# Altium schematic symbol library ICs.SchLib: 51 symbols (part 2 of 2)
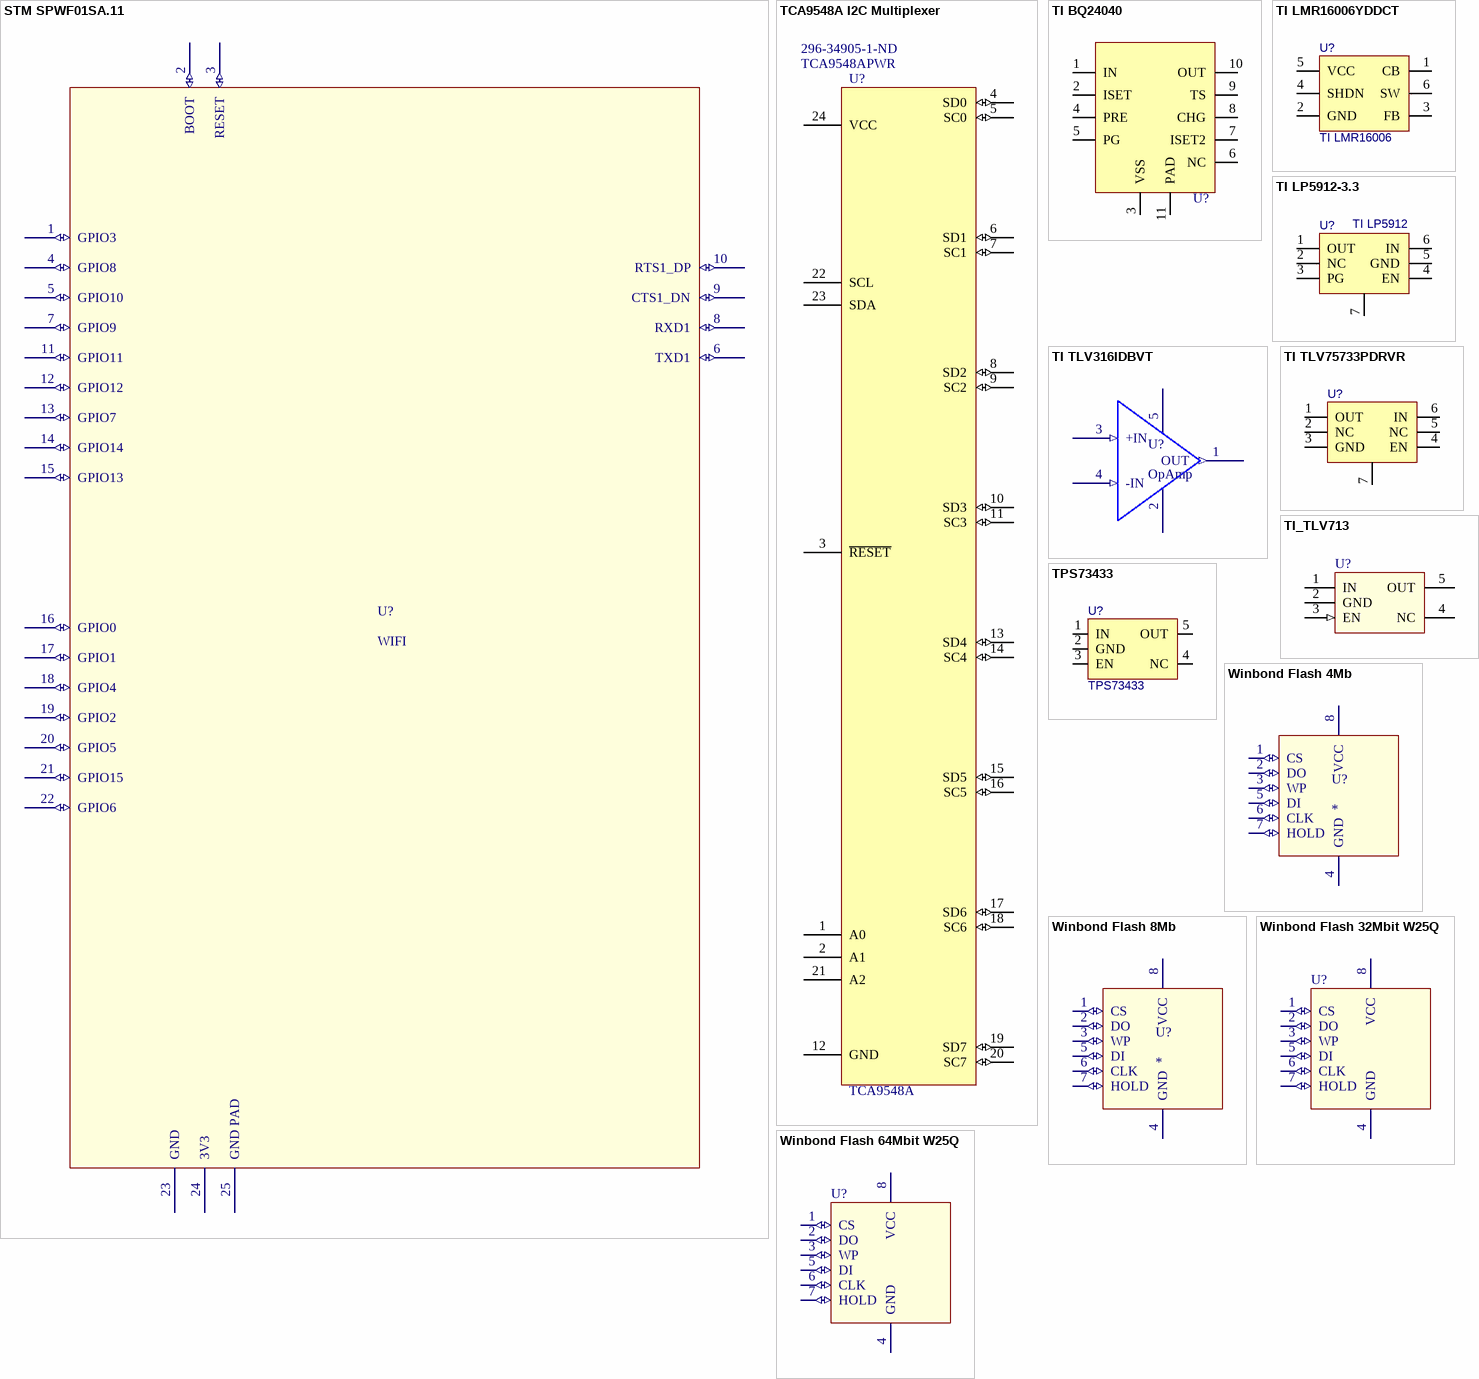
[diagram p3: symbols STM SPWF01SA.11 to Winbond Flash 64Mbit W25Q]

## STM SPWF01SA.11
designator U?, comment WIFI
Certified WIFI Module; Manufacturer: STMicroelectronics; Manufacturer Part Number: SPWF01SA.11; Protocol: 802.11b/g/n; Modulation: DSSS, OFDM; Frequency: 2.4GHz; Data Rate: 65Mbps; Power - Output: 18.3dBm; Sensitivity: -96dBm; Serial Interfaces: UART; Antenna Type: Integrated, Chip; Memory Size: 1.5MB Flash, 64kB RAM; Voltage - Supply: 3.3V; Current - Receiving: 105mA; Current - Transmitting: 210mA ~ 344mA; ID: 19561028; Supplier 1: Digi-Key; RoHS: RoHS Compliant; Category: RF/IF and RFID; Stock 1: 1130; Pricing 1: 1=28.73, 10=25.997, 100=21.8922, 250=20.52388, 500=19.15564, 1000=18.19785, 2500=17.44531, 5000=16.96642 (CAD); Packaging: Tray; RF Family/Standard: WiFi; Mounting Type: Surface Mount; Operating Temperature: -40°C ~ 85°C; Package / Case: Module; ComponentLink1URL: http://www.st.com/web/en/resource/technical/document/datasheet/DM00102124.pdf; ComponentLink1Description: http://www.st.com/web/en/resource/technical/document/datasheet/DM00102124.pdf; Supplier 2: Arrow; Stock 2: 3847; Pricing 2: 1=16.19, 10=14.707, 100=13.82, 250=12.537, 500=11.724, 1000=11.694, 2500=11.619, 5000=11.574 (USD); Package Quantity: 1; ComponentLink2URL: https://www.arrow.com/en/products/spwf01sa.11/stmicroelectronics/; ComponentLink2Description: https://www.arrow.com/en/products/spwf01sa.11/stmicroelectronics/; Supplier Part Number 1: 497-14636-ND; Supplier Part Number 2: Wdfpc_wiQzKTQH3At1qLNiXMcmFL7nZEeRLTwZfB4eA
pins: 1 GPIO3 (io), 2 BOOT (io), 3 RESET (io), 4 GPIO8 (io), 5 GPIO10 (io), 6 TXD1 (io), 7 GPIO9 (io), 8 RXD1 (io), 9 CTS1_DN (io), 10 RTS1_DP (io), 11 GPIO11 (io), 12 GPIO12 (io), 13 GPIO7 (io), 14 GPIO14 (io), 15 GPIO13 (io), 16 GPIO0 (io), 17 GPIO1 (io), 18 GPIO4 (io), 19 GPIO2 (io), 20 GPIO5 (io), 21 GPIO15 (io), 22 GPIO6 (io), 23 GND (power), 24 3V3 (power), 25 GND PAD (power)

## TCA9548A I2C Multiplexer
designator U?, comment TCA9548A  Supplier Part Number 1: TCA9548APWR  Supplier Part Number 2: 296-34905-1-ND
Supplier 1: Arrow; Supplier 2: Digi-Key
footprint TSOP65P640X120-24N (TSOP, 24-Leads, Body 7.80x4.40mm, Pitch 0.65mm, IPC Medium Density)
pins: 1 A0, 2 A1, 3 ~{RESET}, 4 SD0 (io), 5 SC0 (io), 6 SD1 (io), 7 SC1 (io), 8 SD2 (io), 9 SC2 (io), 10 SD3 (io), 11 SC3 (io), 12 GND (power), 13 SD4 (io), 14 SC4 (io), 15 SD5 (io), 16 SC5 (io), 17 SD6 (io), 18 SC6 (io), 19 SD7 (io), 20 SC7 (io), 21 A2, 22 SCL, 23 SDA, 24 VCC (power)

## TI BQ24040
designator U?  (value not drawn)
LiPoly Charge IC; Manufacturer: Texas Instruments; Manufacturer Part Number: BQ24040DSQR; Battery Chemistry: Lithium-Ion/Polymer; Number of Cells: 1; Current - Charging: Constant - Programmable; Programmable Features: Current; Fault Protection: Over Temperature, Over Voltage, Short Circuit; Charge Current - Max: 1A; Battery Pack Voltage: 4.2V; Voltage - Supply (Max): 28V; Supplier 1: Digi-Key; Stock 1: 26924; Pricing 1: 1=1.26, 10=1.124, 100=0.8765, 500=0.7241, 1000=0.5717 (USD); Category: Integrated Circuits (ICs); Family: PMIC - Battery Chargers; Series: -; Packaging: Cut Tape (CT); Interface: -; Operating Temperature: -40°C ~ 85°C (TA); Package / Case: 10-WFDFN Exposed Pad; Supplier Device Package: 10-SON (2x2); ComponentLink1URL: http://www.ti.com/lit/pdf/slyt420; ComponentLink1Description: http://www.ti.com/lit/pdf/slyt420; ComponentLink2URL: http://datasheet.iiic.cc/texas_instruments/BQ24040DSQR.pdf; ComponentLink2Description: http://datasheet.iiic.cc/texas_instruments/BQ24040DSQR.pdf; Supplier Part Number 1: 296-37142-1-ND
footprint WDFN-10 2x2
pins: 1 IN, 2 ISET, 3 VSS, 4 PRE, 5 PG, 6 NC, 7 ISET2, 8 CHG, 9 TS, 10 OUT, 11 PAD

## TI LMR16006YDDCT
designator U?, comment TI LMR16006
IC, Switching Regulator,0.5A,SOT-23-6; Manufacturer: Texas Instruments; Manufacturer Part Number: LMR16006YDDCR; Function: Step-Down; Output Configuration: Positive; Topology: Buck; Output Type: Adjustable; Number of Outputs: 1; Voltage - Input (Min): 4V; Voltage - Input (Max): 60V; Voltage - Output (Min/Fixed): 0.765V; Voltage - Output (Max): 55V; Current - Output: 600mA; Frequency - Switching: 2.1MHz; Synchronous Rectifier: No; TZOA PN: 218-00002; Supplier 1: Digi-Key; Stock 1: 3069; Pricing 1: 1=2.95, 10=2.648, 100=2.1692, 500=1.8466, 1000=1.5574 (USD); Category: Integrated Circuits (ICs); Family: PMIC - Voltage Regulators - DC DC Switching Regulators; Series: SIMPLE SWITCHER®; Packaging: Cut Tape (CT); Operating Temperature: -40°C ~ 125°C (TJ); Mounting Type: Surface Mount; Package / Case: SOT-23-6 Thin, TSOT-23-6; Supplier Device Package: SOT-6; ComponentLink1URL: http://www.ti.com/general/docs/lit/getliterature.tsp?genericPartNumber=LMR16006&&fileType=pdf; ComponentLink1Description: http://www.ti.com/general/docs/lit/getliterature.tsp?genericPartNumber=LMR16006&&fileType=pdf; Supplier Part Number 1: 296-40294-1-ND
footprint SOT-23T-6 (SOT-23.ogl)
pins: 1 CB, 2 GND, 3 FB, 4 SHDN, 5 VCC, 6 SW

## TI LP5912-3.3
designator U?, comment TI LP5912
VOLTAGE REGULATOR Low-dropout (LDO) CMOS 300 mV Typical at 500 mA TSOT23-5; Manufacturer: Texas Instruments; Manufacturer Part Number: LP5912-3.3DRVT; TZOA PN: 218-00003; Regulator Topology: Positive Fixed; Voltage - Output: 3.3V; Current - Output: 500mA; Voltage - Dropout (Typical): 0.95V @ 500mA; Number of Regulators: 1; Voltage - Input: Up to 6.5V; Supplier 1: Digi-Key; Stock 1: 1327; Pricing 1: 1=1.41, 10=1.258, 100=0.9808 (USD); Category: Integrated Circuits (ICs); Family: PMIC - Voltage Regulators - Linear; Series: -; Packaging: Cut Tape (CT); Current - Limit (Min): -; Operating Temperature: -40°C ~ 125°C; Mounting Type: Surface Mount; Package / Case: 6-WDFN Exposed Pad; Supplier Device Package: 6-SON (2x2); ComponentLink1URL: http://www.ti.com/general/docs/lit/getliterature.tsp?genericPartNumber=LP5912&amp;&amp;fileType=pdf; ComponentLink1Description: http://www.ti.com/general/docs/lit/getliterature.tsp?genericPartNumber=LP5912&amp;&amp;fileType=pdf; Supplier Part Number 1: 296-44153-1-ND
footprint WDFN-6 2x2
pins: 1 OUT (power), 2 NC, 3 PG, 4 EN, 5 GND, 6 IN, 7

## TI TLV316IDBVT
designator U?, comment OpAmp
General Purpose Rail to Rail OpAmp; Manufacturer: Texas Instruments; Manufacturer Part Number: TLV316IDBVT; Number of Circuits: 1; Output Type: Rail-to-Rail; Slew Rate: 6 V/µs; Gain Bandwidth Product: 10MHz; Current - Input Bias: 10pA; Voltage - Input Offset: 750µV; Current - Supply: 400µA; Current - Output / Channel: 50mA; Voltage - Supply, Single/Dual (±): 1.8 V ~ 5.5 V; ID: 28112768; Supplier 1: Digi-Key; RoHS: RoHS Compliant; Category: Integrated Circuits (ICs); Stock 1: 1192; Pricing 1: 1=1.28, 10=1.127, 100=0.8619 (CAD); Packaging: Cut Tape (CT); Amplifier Type: General Purpose; -3db Bandwidth: -; Operating Temperature: -40°C ~ 125°C; Mounting Type: Surface Mount; Package / Case: SC-74A, SOT-753; Supplier Device Package: SOT-23-5; ComponentLink1URL: http://www.ti.com/lit/ds/symlink/tlv316.pdf; ComponentLink1Description: http://www.ti.com/lit/ds/symlink/tlv316.pdf; Supplier 2: Arrow; Stock 2: 1145; Pricing 2: 1=0.6782, 10=0.6149, 25=0.5895, 100=0.4553 (USD); Package Quantity: 1; ComponentLink2URL: https://www.arrow.com/en/products/tlv316idbvt/texas-instruments/; ComponentLink2Description: https://www.arrow.com/en/products/tlv316idbvt/texas-instruments/; Supplier Part Number 1: 296-43939-1-ND
footprint SOT-23-5
pins: 1 OUT (out), 2 GND (power), 3 +IN (in), 4 -IN (in), 5 VCC (power)

## TI TLV75733PDRVR
designator U?  (value not drawn)
VOLTAGE REGULATOR Low-dropout (LDO) CMOS 300 mV Typical at 500 mA TSOT23-5; Manufacturer: Texas Instruments; Supplier 1: Digi-Key; Manufacturer Part Number: TLV75733PDRVR; Stock 1: 2857; Pricing 1: 1=0.9, 10=0.802, 100=0.6254, 500=0.5166, 1000=0.4079 (USD); Supplier Part Number 1: 296-49281-1-ND
footprint WDFN-6 2x2
pins: 1 OUT (power), 2 NC, 3 GND, 4 EN, 5 NC, 6 IN, 7

## TI_TLV713
designator U?  (value not drawn)
VOLTAGE REGULATOR Low-dropout (LDO) Capacitor-Free 2.5V 150-mA SOT23-5; Manufacturer: Texas Instruments; Manufacturer Part Number: TLV71325PDBVR; TZOA PN: 218-00001; Minimum Quantity: 1; Regulator Topology: Positive Fixed; Current - Output: 150mA; Voltage - Dropout (Typical): 0.246V @ 150mA; Voltage - Input: Up to 5.5V; Current - Limit (Min): 180mA; Supplier 1: Digi-Key; Stock 1: 6182; Pricing 1: 1=0.42, 10=0.339, 100=0.2307, 500=0.173, 1000=0.1298 (USD); Quantity Available: Cut Tape (CT); Standard Package: 3,000; Category: Integrated Circuits (ICs); Family: PMIC - Voltage Regulators - Linear (LDO); Packaging: Tape & Reel (TR); Voltage - Output: 2.5V; Number of Regulators: 1; Operating Temperature: -40°C ~ 85°C; Mounting Type: Surface Mount; Package / Case: SC-74A, SOT-753; Supplier Device Package: SOT-23-5; ComponentLink1URL: http://components.arrow.com/part/dataview/0323_06932499; ComponentLink1Description: http://components.arrow.com/part/dataview/0323_06932499; ComponentLink2URL: http://www.ti.com/general/docs/lit/getliterature.tsp?genericPartNumber=TLV713P&&fileType=pdf; ComponentLink2Description: http://www.ti.com/general/docs/lit/getliterature.tsp?genericPartNumber=TLV713P&&fileType=pdf; ComponentLink3URL: http://www.ti.com/lit/gpn/tlv713p; ComponentLink3Description: http://www.ti.com/lit/gpn/tlv713p; ComponentLink4URL: http://www.ti.com/lit/ds/symlink/tlv713p.pdf; ComponentLink4Description: http://www.ti.com/lit/ds/symlink/tlv713p.pdf; ComponentLink5URL: http://www.ti.com/lit/ds/symlink/tlv71325p.pdf; ComponentLink5Description: http://www.ti.com/lit/ds/symlink/tlv71325p.pdf; Supplier Part Number 1: 296-40653-1-ND
footprint SOT-23T-5 (SOT-23-5pins.ogl)
pins: 1 IN (power), 2 GND (power), 3 EN (in), 4 NC, 5 OUT (power)

## TPS73433
designator U?
IC,SMD,LDO,0.5A,SOT-23-5; Manufacturer: Texas Instruments; Manufacturer Part Number: TPS73433TDDCRQ1; Regulator Topology: Positive Fixed; Voltage - Output: 3.3V; Current - Output: 250mA; Voltage - Dropout (Typical): 0.125V @ 250mA; Number of Regulators: 1; Voltage - Input: Up to 6.5V; Current - Limit (Min): 300mA; Supplier 1: Digi-Key; RoHS: RoHS Compliant; Category: Integrated Circuits (ICs); Stock 1: 2582; Pricing 1: 1=1.51, 10=1.356, 100=1.0564, 500=0.87366, 1000=0.55718 (CAD); Packaging: Cut Tape (CT); Operating Temperature: -40°C ~ 105°C; Mounting Type: Surface Mount; Package / Case: SOT-23-5 Thin, TSOT-23-5; Supplier Device Package: 5-SOT; ComponentLink1URL: http://www.ti.com/lit/ds/symlink/tps73433-q1.pdf; ComponentLink1Description: http://www.ti.com/lit/ds/symlink/tps73433-q1.pdf; Supplier Part Number 1: 296-36844-1-ND
footprint SOT-23T-5 (SOT-23-5pins.ogl)
pins: 1 IN, 2 GND, 3 EN, 4 NC, 5 OUT

## Winbond Flash 4Mb
designator U?
Manufacturer: Winbond Electronics; Manufacturer Part Number: W25X40CLUXIG TR; Format - Memory: FLASH; Memory Size: 4M (512K x 8); Speed: 104MHz; Interface: SPI Serial; Voltage - Supply: 2.3 V ~ 3.6 V; Supplier 1: Digi-Key; Supplier Part Number 1: W25X40CLUXIGCT-ND; RoHS: RoHS Compliant; Category: Integrated Circuits (ICs); Stock: 10819; Pricing: 1=0.69, 10=0.681, 25=0.6324, 50=0.6286, 100=0.5585, 250=0.55116, 500=0.54294, 1000=0.5284 (CAD); Packaging: Cut Tape (CT); Part Status: Active; Memory Type: FLASH; Operating Temperature: -40°C ~ 85°C (TA); Package / Case: 8-UFDFN Exposed Pad; Supplier Device Package: 8-USON (2x3); ComponentLink1URL: http://www.winbond.com/resource-files/w25x40cl_e01.pdf; ComponentLink1Description: http://www.winbond.com/resource-files/w25x40cl_e01.pdf
pins: 1 CS (io), 2 DO (io), 3 WP (io), 4 GND (power), 5 DI (io), 6 CLK (io), 7 HOLD (io), 8 VCC (power)

## Winbond Flash 8Mb
designator U?
Manufacturer: Winbond Electronics; Manufacturer Part Number: W25Q80EWZPIG; Format - Memory: FLASH; Memory Type: FLASH - NOR; Memory Size: 8M (1M x 8); Speed: 104MHz; Interface: SPI Serial; Voltage - Supply: 1.65 V ~ 1.95 V; Supplier 1: Digi-Key; Supplier Part Number 1: W25Q80EWZPIG-ND; RoHS: RoHS Compliant; Category: Integrated Circuits (ICs); Stock: 309; Pricing: 1=0.81, 10=0.739, 25=0.7296, 50=0.7252, 100=0.6485, 300=0.6428, 500=0.63346, 1000=0.6106, 5000=0.55628 (CAD); Packaging: Tray; Part Status: Active; Operating Temperature: -40°C ~ 85°C (TA); Package / Case: 8-WDFN Exposed Pad; Supplier Device Package: 8-WSON (6x5); ComponentLink1URL: https://www.winbond.com/resource-files/w25q80ew_revb_dms.pdf; ComponentLink1Description: https://www.winbond.com/resource-files/w25q80ew_revb_dms.pdf
footprint 8 WSON 6x5
pins: 1 CS (io), 2 DO (io), 3 WP (io), 4 GND (power), 5 DI (io), 6 CLK (io), 7 HOLD (io), 8 VCC (power)

## Winbond Flash 32Mbit W25Q
designator U?  (value not drawn)
Winbond Flash IC Very Common; Manufacturer Part Number: W25Q32JVSSIQ; Minimum Operating Supply Voltage: 2.7 V; Screening Level: Industrial; Support of Common Flash Interface: No; Page Size: 256 byte; Number of Bits per Word: 1 Bit; Typical Operating Supply Voltage: 3 V; Timing Type: Synchronous; Boot Block: Yes; Block Organization: Symmetrical; Architecture: Sectored; Cell Type: NOR; Location Of Boot Block: Bottom|Top; Maximum Operating Supply Voltage: 3.6 V; Interface Type: Serial-SPI; Density: 32 MB; Number of Words: 32 m; Sector Size: 4 x 1024 KB; Supplier 1: Digi-Key; Manufacturer: Winbond; Stock 1: 80866; Pricing 1: 1=0.97 (USD); Mounting: Surface Mount; Command Compatible: No; Erase Suspend/Resume Modes Support: Yes; Simultaneous Read/Write Support: No; ECC Support: No; Support of Page Mode: No; Green: Yes; Operating Temperature: -40 to 85; Family: W25Q32JV; Lead Free: Yes; ComponentLink1URL: http://www.winbond.com/resource-files/w25q32jv%20dtr%20revf%2002242017.pdf; ComponentLink1Description: http://www.winbond.com/resource-files/w25q32jv%20dtr%20revf%2002242017.pdf; ComponentLink2URL: https://www.winbond.com/hq/product/code-storage-flash-memory/serial-nor-flash/?__locale=en&partNo=W25Q32JV; ComponentLink2Description: https://www.winbond.com/hq/product/code-storage-flash-memory/serial-nor-flash/?__locale=en&partNo=W25Q32JV; Supplier Part Number 1: W25Q32JVSSIQ-ND
footprint SOIC-8 5.3mm
pins: 1 CS (io), 2 DO (io), 3 WP (io), 4 GND (power), 5 DI (io), 6 CLK (io), 7 HOLD (io), 8 VCC (power)

## Winbond Flash 64Mbit W25Q
designator U?  (value not drawn)
Winbond Flash IC; Manufacturer Part Number: W25Q64JVSSIMTR; Supplier 1: Digi-Key; Manufacturer: Winbond; Stock 1: 1158; Pricing 1: 1=1.24 (USD); ComponentLink1URL: http://www.winbond.com/resource-files/w25q64jv%20revj%2003272018%20plus.pdf; ComponentLink1Description: http://www.winbond.com/resource-files/w25q64jv%20revj%2003272018%20plus.pdf; Supplier Part Number 1: W25Q64JVSSIMCT-ND
footprint SOIC-8 5.3mm
pins: 1 CS (io), 2 DO (io), 3 WP (io), 4 GND (power), 5 DI (io), 6 CLK (io), 7 HOLD (io), 8 VCC (power)